# EAGLE library part CM4 (library CM4 Socket by YTM)
Compute Module 4 Device by YeaTheMen Raspberry Pi Compute Module 4 Carrier Footprint EAGLE Library by YeaTheMen Footprint Revision A github.com/YeaTheMen/eagle-libraries Notes * Measurements and Pins referenced from CM4 Datasheet <https://datasheets.raspberrypi.org/cm4/cm4-datasheet.pdf> * Connector Part is Hirose Electric DF40C-100DS-0.4V(51) www.digikey.com/en/products/detail/hirose-electric-co-ltd/DF40C-100DS-0-4V-51/1969476
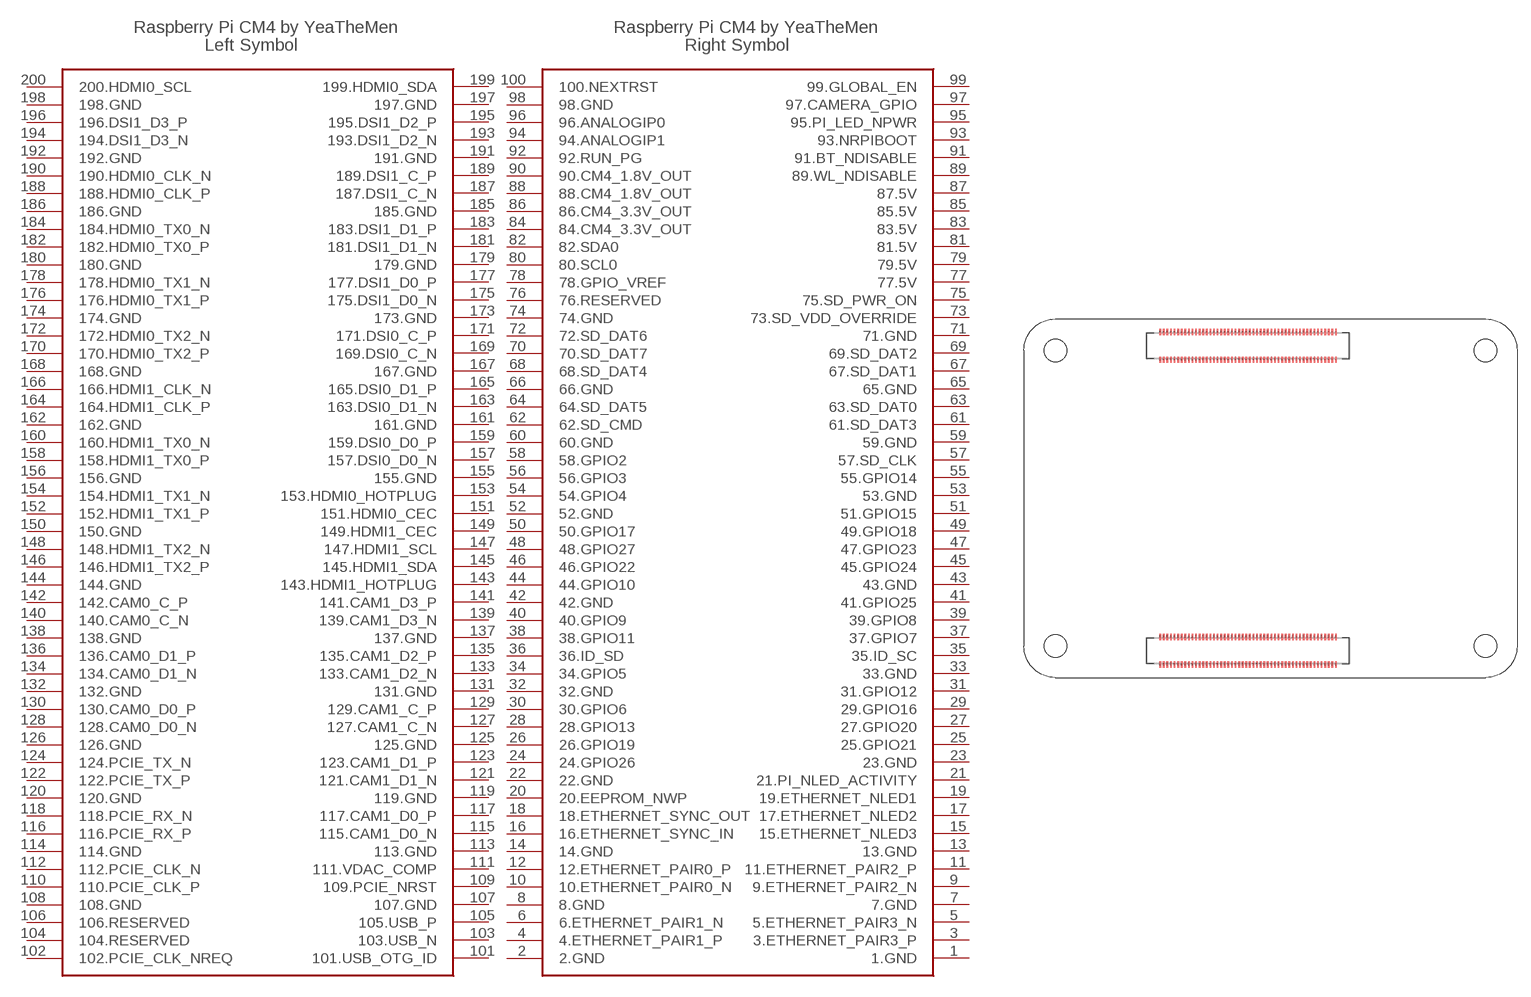
[diagram p0: symbol with the pads of CM4_FOOTPRINT; footprint CM4_FOOTPRINT]

Designator prefix -; gates G$1=CM4_SOCKET_RIGHT(1-100) G$2=CM4_SOCKET_LEFT(101-200)

## CM4  [CM4_FOOTPRINT]
1  G$1:1.GND
2  G$1:2.GND
3  G$1:3.ETHERNET_PAIR3_P
4  G$1:4.ETHERNET_PAIR1_P
5  G$1:5.ETHERNET_PAIR3_N
6  G$1:6.ETHERNET_PAIR1_N
7  G$1:7.GND
8  G$1:8.GND
9  G$1:9.ETHERNET_PAIR2_N
10  G$1:10.ETHERNET_PAIR0_N
11  G$1:11.ETHERNET_PAIR2_P
12  G$1:12.ETHERNET_PAIR0_P
13  G$1:13.GND
14  G$1:14.GND
15  G$1:15.ETHERNET_NLED3
16  G$1:16.ETHERNET_SYNC_IN
17  G$1:17.ETHERNET_NLED2
18  G$1:18.ETHERNET_SYNC_OUT
19  G$1:19.ETHERNET_NLED1
20  G$1:20.EEPROM_NWP
21  G$1:21.PI_NLED_ACTIVITY
22  G$1:22.GND
23  G$1:23.GND
24  G$1:24.GPIO26
25  G$1:25.GPIO21
26  G$1:26.GPIO19
27  G$1:27.GPIO20
28  G$1:28.GPIO13
29  G$1:29.GPIO16
30  G$1:30.GPIO6
31  G$1:31.GPIO12
32  G$1:32.GND
33  G$1:33.GND
34  G$1:34.GPIO5
35  G$1:35.ID_SC
36  G$1:36.ID_SD
37  G$1:37.GPIO7
38  G$1:38.GPIO11
39  G$1:39.GPIO8
40  G$1:40.GPIO9
41  G$1:41.GPIO25
42  G$1:42.GND
43  G$1:43.GND
44  G$1:44.GPIO10
45  G$1:45.GPIO24
46  G$1:46.GPIO22
47  G$1:47.GPIO23
48  G$1:48.GPIO27
49  G$1:49.GPIO18
50  G$1:50.GPIO17
51  G$1:51.GPIO15
52  G$1:52.GND
53  G$1:53.GND
54  G$1:54.GPIO4
55  G$1:55.GPIO14
56  G$1:56.GPIO3
57  G$1:57.SD_CLK
58  G$1:58.GPIO2
59  G$1:59.GND
60  G$1:60.GND
61  G$1:61.SD_DAT3
62  G$1:62.SD_CMD
63  G$1:63.SD_DAT0
64  G$1:64.SD_DAT5
65  G$1:65.GND
66  G$1:66.GND
67  G$1:67.SD_DAT1
68  G$1:68.SD_DAT4
69  G$1:69.SD_DAT2
70  G$1:70.SD_DAT7
71  G$1:71.GND
72  G$1:72.SD_DAT6
73  G$1:73.SD_VDD_OVERRIDE
74  G$1:74.GND
75  G$1:75.SD_PWR_ON
76  G$1:76.RESERVED
77  G$1:77.5V
78  G$1:78.GPIO_VREF
79  G$1:79.5V
80  G$1:80.SCL0
81  G$1:81.5V
82  G$1:82.SDA0
83  G$1:83.5V
84  G$1:84.CM4_3.3V_OUT
85  G$1:85.5V
86  G$1:86.CM4_3.3V_OUT
87  G$1:87.5V
88  G$1:88.CM4_1.8V_OUT
89  G$1:89.WL_NDISABLE
90  G$1:90.CM4_1.8V_OUT
91  G$1:91.BT_NDISABLE
92  G$1:92.RUN_PG
93  G$1:93.NRPIBOOT
94  G$1:94.ANALOGIP1
95  G$1:95.PI_LED_NPWR
96  G$1:96.ANALOGIP0
97  G$1:97.CAMERA_GPIO
98  G$1:98.GND
99  G$1:99.GLOBAL_EN
100  G$1:100.NEXTRST
101  G$2:101.USB_OTG_ID
102  G$2:102.PCIE_CLK_NREQ
103  G$2:103.USB_N
104  G$2:104.RESERVED
105  G$2:105.USB_P
106  G$2:106.RESERVED
107  G$2:107.GND
108  G$2:108.GND
109  G$2:109.PCIE_NRST
110  G$2:110.PCIE_CLK_P
111  G$2:111.VDAC_COMP
112  G$2:112.PCIE_CLK_N
113  G$2:113.GND
114  G$2:114.GND
115  G$2:115.CAM1_D0_N
116  G$2:116.PCIE_RX_P
117  G$2:117.CAM1_D0_P
118  G$2:118.PCIE_RX_N
119  G$2:119.GND
120  G$2:120.GND
121  G$2:121.CAM1_D1_N
122  G$2:122.PCIE_TX_P
123  G$2:123.CAM1_D1_P
124  G$2:124.PCIE_TX_N
125  G$2:125.GND
126  G$2:126.GND
127  G$2:127.CAM1_C_N
128  G$2:128.CAM0_D0_N
129  G$2:129.CAM1_C_P
130  G$2:130.CAM0_D0_P
131  G$2:131.GND
132  G$2:132.GND
133  G$2:133.CAM1_D2_N
134  G$2:134.CAM0_D1_N
135  G$2:135.CAM1_D2_P
136  G$2:136.CAM0_D1_P
137  G$2:137.GND
138  G$2:138.GND
139  G$2:139.CAM1_D3_N
140  G$2:140.CAM0_C_N
141  G$2:141.CAM1_D3_P
142  G$2:142.CAM0_C_P
143  G$2:143.HDMI1_HOTPLUG
144  G$2:144.GND
145  G$2:145.HDMI1_SDA
146  G$2:146.HDMI1_TX2_P
147  G$2:147.HDMI1_SCL
148  G$2:148.HDMI1_TX2_N
149  G$2:149.HDMI1_CEC
150  G$2:150.GND
151  G$2:151.HDMI0_CEC
152  G$2:152.HDMI1_TX1_P
153  G$2:153.HDMI0_HOTPLUG
154  G$2:154.HDMI1_TX1_N
155  G$2:155.GND
156  G$2:156.GND
157  G$2:157.DSI0_D0_N
158  G$2:158.HDMI1_TX0_P
159  G$2:159.DSI0_D0_P
160  G$2:160.HDMI1_TX0_N
161  G$2:161.GND
162  G$2:162.GND
163  G$2:163.DSI0_D1_N
164  G$2:164.HDMI1_CLK_P
165  G$2:165.DSI0_D1_P
166  G$2:166.HDMI1_CLK_N
167  G$2:167.GND
168  G$2:168.GND
169  G$2:169.DSI0_C_N
170  G$2:170.HDMI0_TX2_P
171  G$2:171.DSI0_C_P
172  G$2:172.HDMI0_TX2_N
173  G$2:173.GND
174  G$2:174.GND
175  G$2:175.DSI1_D0_N
176  G$2:176.HDMI0_TX1_P
177  G$2:177.DSI1_D0_P
178  G$2:178.HDMI0_TX1_N
179  G$2:179.GND
180  G$2:180.GND
181  G$2:181.DSI1_D1_N
182  G$2:182.HDMI0_TX0_P
183  G$2:183.DSI1_D1_P
184  G$2:184.HDMI0_TX0_N
185  G$2:185.GND
186  G$2:186.GND
187  G$2:187.DSI1_C_N
188  G$2:188.HDMI0_CLK_P
189  G$2:189.DSI1_C_P
190  G$2:190.HDMI0_CLK_N
191  G$2:191.GND
192  G$2:192.GND
193  G$2:193.DSI1_D2_N
194  G$2:194.DSI1_D3_N
195  G$2:195.DSI1_D2_P
196  G$2:196.DSI1_D3_P
197  G$2:197.GND
198  G$2:198.GND
199  G$2:199.HDMI0_SDA
200  G$2:200.HDMI0_SCL

## Footprint CM4_FOOTPRINT (pad centres in mm)
Raspberry Pi Compute Module 4 PCB Footprint by YeaTheMen Raspberry Pi Compute Module 4 Carrier Footprint EAGLE Library Footprint Revision A github.com/YeaTheMen/eagle-libraries Notes * Measurements referenced from CM4 Datasheet <https://datasheets.raspberrypi.org/cm4/cm4-datasheet.pdf> * Connector Part is Hirose Electric DF40C-100DS-0.4V(51) www.digikey.com/en/products/detail/hirose-electric-co-ltd/DF40C-100DS-0-4V-51/1969476
smd 0.2 x 0.7: 1 9.8,18.54; 2 9.8,15.46; 3 9.4,18.54; 4 9.4,15.46; 5 9,18.54; 6 9,15.46; 7 8.6,18.54; 8 8.6,15.46; 9 8.2,18.54; 10 8.2,15.46; 11 7.8,18.54; 12 7.8,15.46; 13 7.4,18.54; 14 7.4,15.46; 15 7,18.54; 16 7,15.46; 17 6.6,18.54; 18 6.6,15.46; 19 6.2,18.54; 20 6.2,15.46; 21 5.8,18.54; 22 5.8,15.46; 23 5.4,18.54; 24 5.4,15.46; 25 5,18.54; 26 5,15.46; 27 4.6,18.54; 28 4.6,15.46; 29 4.2,18.54; 30 4.2,15.46; 31 3.8,18.54; 32 3.8,15.46; 33 3.4,18.54; 34 3.4,15.46; 35 3,18.54; 36 3,15.46; 37 2.6,18.54; 38 2.6,15.46; 39 2.2,18.54; 40 2.2,15.46; 41 1.8,18.54; 42 1.8,15.46; 43 1.4,18.54; 44 1.4,15.46; 45 1,18.54; 46 1,15.46; 47 0.6,18.54; 48 0.6,15.46; 49 0.2,18.54; 50 0.2,15.46; 51 -0.2,18.54; 52 -0.2,15.46; 53 -0.6,18.54; 54 -0.6,15.46; 55 -1,18.54; 56 -1,15.46; 57 -1.4,18.54; 58 -1.4,15.46; 59 -1.8,18.54; 60 -1.8,15.46; 61 -2.2,18.54; 62 -2.2,15.46; 63 -2.6,18.54; 64 -2.6,15.46; 65 -3,18.54; 66 -3,15.46; 67 -3.4,18.54; 68 -3.4,15.46; 69 -3.8,18.54; 70 -3.8,15.46; 71 -4.2,18.54; 72 -4.2,15.46; 73 -4.6,18.54; 74 -4.6,15.46; 75 -5,18.54; 76 -5,15.46; 77 -5.4,18.54; 78 -5.4,15.46; 79 -5.8,18.54; 80 -5.8,15.46; 81 -6.2,18.54; 82 -6.2,15.46; 83 -6.6,18.54; 84 -6.6,15.46; 85 -7,18.54; 86 -7,15.46; 87 -7.4,18.54; 88 -7.4,15.46; 89 -7.8,18.54; 90 -7.8,15.46; 91 -8.2,18.54; 92 -8.2,15.46; 93 -8.6,18.54; 94 -8.6,15.46; 95 -9,18.54; 96 -9,15.46; 97 -9.4,18.54; 98 -9.4,15.46; 99 -9.8,18.54; 100 -9.8,15.46; 101 9.8,-15.46; 102 9.8,-18.54; 103 9.4,-15.46; 104 9.4,-18.54; 105 9,-15.46; 106 9,-18.54; 107 8.6,-15.46; 108 8.6,-18.54; 109 8.2,-15.46; 110 8.2,-18.54; 111 7.8,-15.46; 112 7.8,-18.54; 113 7.4,-15.46; 114 7.4,-18.54; 115 7,-15.46; 116 7,-18.54; 117 6.6,-15.46; 118 6.6,-18.54; 119 6.2,-15.46; 120 6.2,-18.54; 121 5.8,-15.46; 122 5.8,-18.54; 123 5.4,-15.46; 124 5.4,-18.54; 125 5,-15.46; 126 5,-18.54; 127 4.6,-15.46; 128 4.6,-18.54; 129 4.2,-15.46; 130 4.2,-18.54; 131 3.8,-15.46; 132 3.8,-18.54; 133 3.4,-15.46; 134 3.4,-18.54; 135 3,-15.46; 136 3,-18.54; 137 2.6,-15.46; 138 2.6,-18.54; 139 2.2,-15.46; 140 2.2,-18.54; 141 1.8,-15.46; 142 1.8,-18.54; 143 1.4,-15.46; 144 1.4,-18.54; 145 1,-15.46; 146 1,-18.54; 147 0.6,-15.46; 148 0.6,-18.54; 149 0.2,-15.46; 150 0.2,-18.54; 151 -0.2,-15.46; 152 -0.2,-18.54; 153 -0.6,-15.46; 154 -0.6,-18.54; 155 -1,-15.46; 156 -1,-18.54; 157 -1.4,-15.46; 158 -1.4,-18.54; 159 -1.8,-15.46; 160 -1.8,-18.54; 161 -2.2,-15.46; 162 -2.2,-18.54; 163 -2.6,-15.46; 164 -2.6,-18.54; 165 -3,-15.46; 166 -3,-18.54; 167 -3.4,-15.46; 168 -3.4,-18.54; 169 -3.8,-15.46; 170 -3.8,-18.54; 171 -4.2,-15.46; 172 -4.2,-18.54; 173 -4.6,-15.46; 174 -4.6,-18.54; 175 -5,-15.46; 176 -5,-18.54; 177 -5.4,-15.46; 178 -5.4,-18.54; 179 -5.8,-15.46; 180 -5.8,-18.54; 181 -6.2,-15.46; 182 -6.2,-18.54; 183 -6.6,-15.46; 184 -6.6,-18.54; 185 -7,-15.46; 186 -7,-18.54; 187 -7.4,-15.46; 188 -7.4,-18.54; 189 -7.8,-15.46; 190 -7.8,-18.54; 191 -8.2,-15.46; 192 -8.2,-18.54; 193 -8.6,-15.46; 194 -8.6,-18.54; 195 -9,-15.46; 196 -9,-18.54; 197 -9.4,-15.46; 198 -9.4,-18.54; 199 -9.8,-15.46; 200 -9.8,-18.54
hole 2.5 at -21.5,16.5
hole 2.5 at -21.5,-16.5
hole 2.5 at 26.5,-16.5
hole 2.5 at 26.5,16.5